# Altium schematic symbol library MolexModularJacks.SchLib: 1 symbol
Pins are listed as number, name and electrical type; pins without a type are passive.

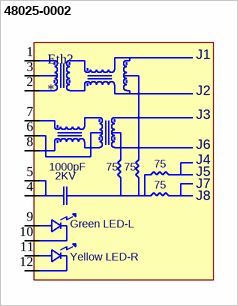
[diagram p0: symbol 48025-0002]

## 48025-0002
designator Eth?
Modular RJ45 Jack w/ Magnetics & LEDs
footprint 48025-0002 (Modular RJ45 Jack w/ Magnetics & LEDs)
pins: 1, 2, 3, 4, 5, 6, 7, 8, 9, 10, 11, 12
text: J1; J2; J3; J6; J4; 1000pF; 75; 2KV; J5; J7; J8; Green LED-L; Yellow LED-R